# EAGLE library part TI_SYS_EDGE (library custom)
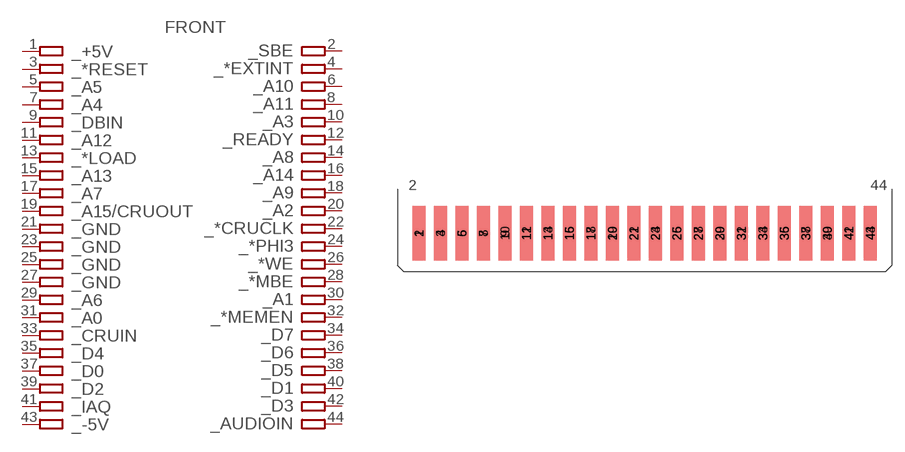
[diagram p3: symbol with the pads of 44PIN_EDGE; footprint 44PIN_EDGE]

Designator prefix CN

## TI_SYS_EDGE  [44PIN_EDGE]
1  1
2  2
3  3
4  4
5  5
6  6
7  7
8  8
9  9
10  10
11  11
12  12
13  13
14  14
15  15
16  16
17  17
18  18
19  19
20  20
21  21
22  22
23  23
24  24
25  25
26  26
27  27
28  28
29  29
30  30
31  31
32  32
33  33
34  34
35  35
36  36
37  37
38  38
39  39
40  40
41  41
42  42
43  43
44  44

## Footprint 44PIN_EDGE (pad centres in mm)
smd 1.524 x 6.477 bottom: 1 2.54,-5.08; 3 5.08,-5.08; 5 7.62,-5.08; 7 10.16,-5.08; 9 12.7,-5.08; 11 15.24,-5.08; 13 17.78,-5.08; 15 20.32,-5.08; 17 22.86,-5.08; 19 25.4,-5.08; 21 27.94,-5.08; 23 30.48,-5.08; 25 33.02,-5.08; 27 35.56,-5.08; 29 38.1,-5.08; 31 40.64,-5.08; 33 43.18,-5.08; 35 45.72,-5.08; 37 48.26,-5.08; 39 50.8,-5.08; 41 53.34,-5.08; 43 55.88,-5.08
smd 1.524 x 6.477: 2 2.54,-5.08; 4 5.08,-5.08; 6 7.62,-5.08; 8 10.16,-5.08; 10 12.7,-5.08; 12 15.24,-5.08; 14 17.78,-5.08; 16 20.32,-5.08; 18 22.86,-5.08; 20 25.4,-5.08; 22 27.94,-5.08; 24 30.48,-5.08; 26 33.02,-5.08; 28 35.56,-5.08; 30 38.1,-5.08; 32 40.64,-5.08; 34 43.18,-5.08; 36 45.72,-5.08; 38 48.26,-5.08; 40 50.8,-5.08; 42 53.34,-5.08; 44 55.88,-5.08